# EAGLE library part CON_USB-MICRO-B-RECEPTACLE-* (library psas_c3_team05)
Standard USB Micro-B receptacle
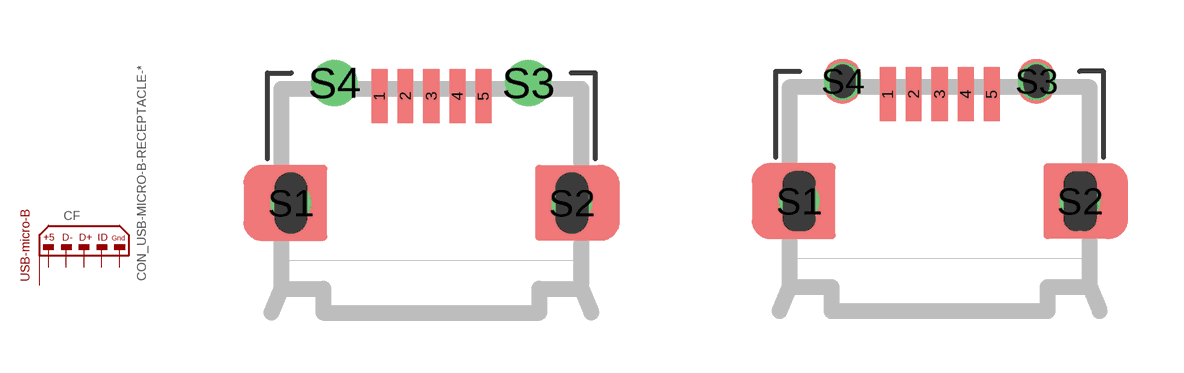
[diagram p0: symbol with the pads of USB-MICRO-B-(0.8MM)-HIROSE-ZX62D-B-5P8; footprints USB-MICRO-B-(0.8MM)-HIROSE-ZX62D-B-5P8, USB-MICRO-B-(25MIL)-HIROSE-ZX62D-B-5P8]

Designator prefix CF

## CON_USB-MICRO-B-RECEPTACLE-MILLED(0.8MM)-HIROSE-ZX62D-B-5P8  [USB-MICRO-B-(0.8MM)-HIROSE-ZX62D-B-5P8]
1  1  pas
2  2  pas
3  3  pas
4  4  pas
5  5  pas
S1  SHIELD  pas
S2  SHIELD  pas
S3  SHIELD  pas
S4  SHIELD  pas

## CON_USB-MICRO-B-RECEPTACLE-MILLED(25MIL)-HIROSE-ZX62D-B-5P8  [USB-MICRO-B-(25MIL)-HIROSE-ZX62D-B-5P8]
Pads as for USB-MICRO-B-(0.8MM)-HIROSE-ZX62D-B-5P8

## CON_USB-MICRO-B-RECEPTACLE-PTH-HIROSE-ZX62D-B-5P8  [USB-MICRO-B-PTH-HIROSE]
Pads as for USB-MICRO-B-(0.8MM)-HIROSE-ZX62D-B-5P8

## Footprint USB-MICRO-B-(0.8MM)-HIROSE-ZX62D-B-5P8 (pad centres in mm)
USB micro B connector for 4-layer board, Hirose ZX62D-B-5P8 or ZX62D-B-5PA8 Standard configuration (i.e. for PCB bottom mount), with plated-through milled slots. (The thin line on tdoc layer marks the usual PCB edge.) This package is a sloppier version of the manufacturer's recommended footprint with wider mill slots (0.8 mm versus 0.635 mm). The 0.8 mm (31 mil) router bit is currently (2013) much easier get from a rapid prototyping service than the smaller bit. Uses signal polygons on 2 inner layers. Hence this package is specific to a 4-layer board. Unfortunately, the layer numbers chosen are not arbitrary. We will use the Eagle convention of numbering a 4 layer board 1, 2, 15, 16. Note, pads are used for the milled slots because that is necessary to connect all the layers in Eagle 6. However, it might be desirable to remove the drill hits from the Excelon file after CAM processing.
smd 0.4 x 1.35: 1 -1.3,2.675; 2 -0.65,2.675; 3 0,2.675; 4 0.65,2.675; 5 1.3,2.675
drill 0.508: S1 -3.513,0; S2 3.513,0
drill 0.65 pad 0.94: S3 2.425,3; S4 -2.425,3

## Footprint USB-MICRO-B-(25MIL)-HIROSE-ZX62D-B-5P8 (pad centres in mm)
USB micro B connector for 4-layer board, Hirose ZX62D-B-5P8 or ZX62D-B-5PA8 Standard configuration (i.e. for PCB bottom mount), with plated-through milled slots. (The thin line on tdoc layer marks the usual PCB edge.) This package is designed for a 25 mil (0.635 mm) diameter router bit. Uses signal polygons on 2 inner layers. Hence this package is specific to a 4-layer board. Unfortunately, the layer numbers chosen are not arbitrary. We will use the Eagle convention of numbering a 4 layer board 1, 2, 15, 16. Note, pads are used for the milled slots because that is necessary to connect all the layers in Eagle 6. However, it might be desirable to remove the drill hits from the Excelon file after CAM processing.
smd 0.4 x 1.35: 1 -1.3,2.675; 2 -0.65,2.675; 3 0,2.675; 4 0.65,2.675; 5 1.3,2.675
drill 0.508: S1 -3.513,0; S2 3.513,0
drill 0.432: S3 2.425,3; S4 -2.425,3

## Footprint USB-MICRO-B-PTH-HIROSE (pad centres in mm)
USB micro B connector for 4-layer board, Hirose ZX62D-B-5P8 or ZX62D-B-5PA8 Standard configuration (i.e. for PCB bottom mount), with plated through holes rather than slots (The thin line on tdoc layer marks the usual PCB edge.) This package is a prototype version of the footprint it uses no milled slots, meaning that placement might be tricky, even involving bending the package tabs. However, avoiding slots is very convenient when running proto-boards, especially considering the very fine slots specified by the manufactuer for this package (0.635 mm).
smd 0.4 x 1.35: 1 -1.3,2.675; 2 -0.65,2.675; 3 0,2.675; 4 0.65,2.675; 5 1.3,2.675
drill 1: S1 -3.513,0; S2 3.513,0
drill 0.65 pad 0.94: S3 2.425,3; S4 -2.425,3